# Altium schematic symbol library Components - 23.07.26 - 21.28.SchLib: 1 symbol
Pins are listed as number, name and electrical type; pins without a type are passive.

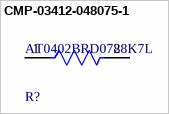
[diagram p0: symbol CMP-03412-048075-1]

## CMP-03412-048075-1
designator R?, comment AT0402BRD0788K7L
Thin Film Chip Resistors Automotive Grade 88.7kΩ 0.1% 25ppm/°C 0402; Max Power Dissipation: 63mW; Resistance: 88.7kR; Packaging: Tape and Reel; Temperature Coefficient: 25ppm/°C; RoHS Compliant: Yes; Number of Terminations: 2; Resistor Type: Thin Film; Length: 0.039inch; Min Operating Temperature: -55°C; Series: AT; Max Operating Temperature: 155°C; Tolerance: 0.1%; Case/Package: 0402; Height: 0.014inch; Width: 0.02inch; Features: Moisture Resistant
footprint FP-AT0402-MFG
footprint FP-AT0402-IPC_C
footprint FP-AT0402-IPC_B
footprint FP-AT0402-IPC_A
pins: 1, 2